# Altium integrated library Generic R0805 - RC0805FR-0710KL.IntLib: 1 symbol
Pins are listed as number, name and electrical type; pins without a type are passive.

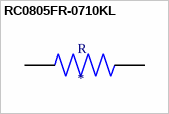
[diagram p0: symbol RC0805FR-0710KL]

## RC0805FR-0710KL
designator R
10 kOhms Â±1% 0.125W, 1/8W Chip Resistor 0805 _2012 Metric_ Moisture Resistant Thick Film; MP: RC0805FR-0710KL; MF: Yageo; Availability: Unavailable; Price: None; Value: *; SnapEDA_Link: https://www.snapeda.com/parts/RC0805FR-0710KL/Yageo/view-part/78752/?ref=snap; Package: 2012 Rohm Semiconductor
footprint RESC2012X60N
pins: 1, 2